# EAGLE library part AS-ITM-00065 (library tinycircuits)
CONN HEADER 8PS.100 DL STR TIN
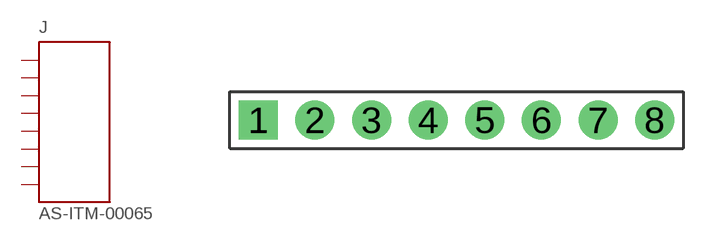
[diagram p21: symbol with the pads of 1X8_.1"TH_HEADER_M; footprint 1X8_.1"TH_HEADER_M]

Designator prefix J

## AS-ITM-00065 (PARTNO: AS-ITM-00065; VALUE: 76384-408LF)  [1X8_.1"TH_HEADER_M]
1  P$1
2  P$2
3  P$3
4  P$4
5  P$5
6  P$6
7  P$7
8  P$8

## Footprint 1X8_.1"TH_HEADER_M (pad centres in mm)
drill 1 pad 1.75 square: 1 -8.89,0
drill 1 pad 1.75: 2 -6.35,0; 3 -3.81,0; 4 -1.27,0; 5 1.27,0; 6 3.81,0; 7 6.35,0; 8 8.89,0